# Altium schematic symbol library resistorSMD.SchLib: 4 symbols
Pins are listed as number, name and electrical type; pins without a type are passive.

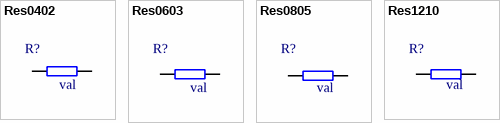
[diagram p0: symbols Res0402 to Res1210]

## Res0402
designator R?  value val
footprint RES0402
pins: 1, 2

## Res0603
designator R?  value val
footprint RES0402
footprint CAP0603
pins: 1, 2

## Res0805
designator R?  value val
footprint RES0402
footprint CAP0805
pins: 1, 2

## Res1210
designator R?  value val
footprint RES1210 (SMD Resistor 1210 - Metric 3225)
pins: 1, 2